# EAGLE library part CP2104FRIEND (library HW4)
PIN HEADER
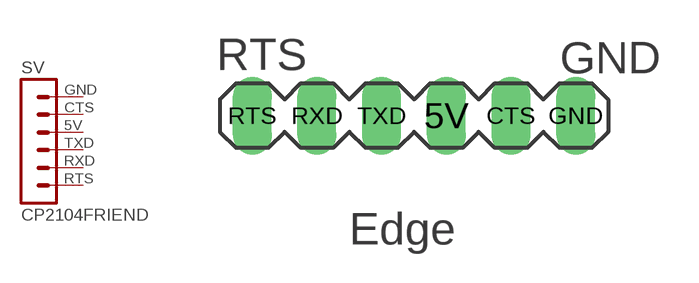
[diagram p2: symbol with the pads of CP2104FRIEND; footprint CP2104FRIEND]

Designator prefix SV

## CP2104FRIEND (OC_FARNELL: unknown; OC_NEWARK: unknown)  [CP2104FRIEND]
5V  5V  pas
CTS  CTS  pas
GND  GND  pas
RTS  RTS  pas
RXD  RXD  pas
TXD  TXD  pas

## Footprint CP2104FRIEND (pad centres in mm)
PIN HEADER
drill 1.016 long: 5V 1.27,0; CTS 3.81,0; GND 6.35,0; RTS -6.35,0; RXD -3.81,0; TXD -1.27,0